# Altium integrated library Linear Technology Operational Amplifiers (LT1000).IntLib: 2280 symbols (part 37 of 79)
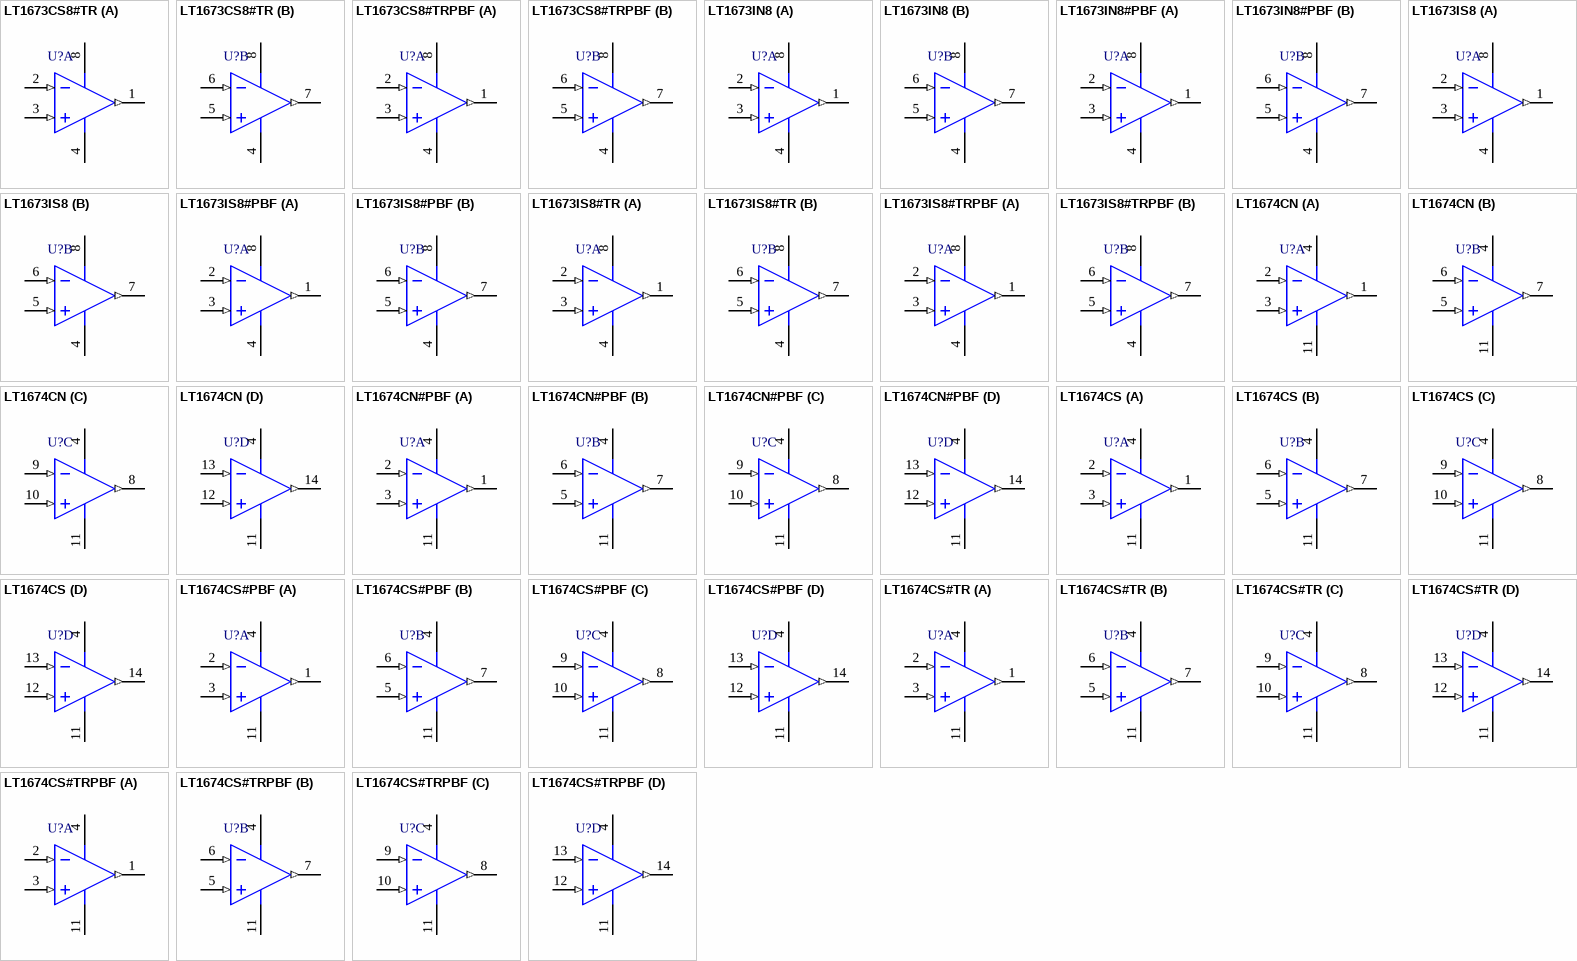
[diagram p141: symbols LT1673CS8#TR to LT1674CS#TRPBF]

## LT1673CS8#TRPBF
designator U?
Dual Channel, Ultra Low Power, Over-The-Top, Rail-to-Rail, Operational Amplifier, 0.012 MHz Typical GBW, 0.005 V/us Typical SR, 2.1 to 36 V, 8-Pin SOIC (S8-8), Commercial, Pb-Free, Reel; Linear Technology Part Number: LT1673; Manufacturer: Linear Technology; PartNumber: LT1673CS8#TRPBF; Channels (#): 2; GBW (MHz) Typical: 0.012; Is (mA) Typical: 0.0015; SR (V/us) Typical: 0.005; Vos (mV) Guaranteed: 0.375; Vos (mV) Typical: 0.15; Vs Max (V): 36; Vs Min (V): 2.1; PackageVersion: Rev G; PackageReference: LT-S8-8; PackageDescription: 8-Pin Plastic Small Outline, Body 4.9 x 3.9 mm, Pitch 1.27 mm; Supplier 1: Digi-Key; Supplier Part Number 1: LT1673CS8#TRPBF-ND; Packing: Reel; RoHS: Pb-Free; Type: VFB; Mounting Technology: Surface Mount; ComponentLink1Description: Manufacturer URL; ComponentLink1URL: http://www.linear.com/; ComponentLink2Description: Datasheet; ComponentLink2URL: http://cds.linear.com/docs/en/datasheet/167234f.pdf; ComponentLink3Description: Package Specification; ComponentLink3URL: http://cds.linear.com/docs/en/packaging/05081610_G_SO8.pdf
footprint LT-S8-8_N (SOIC, 8-Leads, Body 4.9x3.9mm, Pitch 1.27mm, IPC Medium Density)
footprint LT-S8-8_L (SOIC, 8-Leads, Body 4.9x3.9mm, Pitch 1.27mm, IPC High Density)
footprint LT-S8-8_M (SOIC, 8-Leads, Body 4.9x3.9mm, Pitch 1.27mm, IPC Low Density)
pins on every part: 4 V- (power), 8 V+ (power)
part A pins: 1 OUT A (out), 2 -IN A (in), 3 +IN A (in)
part B pins: 5 +IN B (in), 6 -IN B (in), 7 OUT B (out)

## LT1673IN8
designator U?
Dual Channel, Ultra Low Power, Over-The-Top, Rail-to-Rail, Operational Amplifier, 0.012 MHz Typical GBW, 0.005 V/us Typical SR, 2.1 to 36 V, 8-Pin DIP (N8-8), Industrial; Linear Technology Part Number: LT1673; Manufacturer: Linear Technology; PartNumber: LT1673IN8; Channels (#): 2; GBW (MHz) Typical: 0.012; Is (mA) Typical: 0.0015; SR (V/us) Typical: 0.005; Vos (mV) Guaranteed: 0.375; Vos (mV) Typical: 0.15; Vs Max (V): 36; Vs Min (V): 2.1; PackageVersion: Rev I; PackageReference: LT-N8-8; PackageDescription: 8-Lead PDIP, Body 10.16 x 6.48 mm, Pitch 2.54 mm; Type: VFB; Mounting Technology: Through Hole; ComponentLink1Description: Manufacturer URL; ComponentLink1URL: http://www.linear.com/; ComponentLink2Description: Datasheet; ComponentLink2URL: http://cds.linear.com/docs/en/datasheet/167234f.pdf; ComponentLink3Description: Package Specification; ComponentLink3URL: http://cds.linear.com/docs/en/packaging/05081510_I_N8.pdf
footprint LT-N8-8 (DIP, 8-Leads, Body 10.16x6.48mm, Pitch 2.54mm)
pins on every part: 4 V- (power), 8 V+ (power)
part A pins: 1 OUT A (out), 2 -IN A (in), 3 +IN A (in)
part B pins: 5 +IN B (in), 6 -IN B (in), 7 OUT B (out)

## LT1673IN8#PBF
designator U?
Dual Channel, Ultra Low Power, Over-The-Top, Rail-to-Rail, Operational Amplifier, 0.012 MHz Typical GBW, 0.005 V/us Typical SR, 2.1 to 36 V, 8-Pin DIP (N8-8), Industrial, Pb-Free; Linear Technology Part Number: LT1673; Manufacturer: Linear Technology; PartNumber: LT1673IN8#PBF; Channels (#): 2; GBW (MHz) Typical: 0.012; Is (mA) Typical: 0.0015; SR (V/us) Typical: 0.005; Vos (mV) Guaranteed: 0.375; Vos (mV) Typical: 0.15; Vs Max (V): 36; Vs Min (V): 2.1; PackageVersion: Rev I; PackageReference: LT-N8-8; PackageDescription: 8-Lead PDIP, Body 10.16 x 6.48 mm, Pitch 2.54 mm; Supplier 1: Digi-Key; Supplier Part Number 1: LT1673IN8#PBF-ND; RoHS: Pb-Free; Type: VFB; Mounting Technology: Surface Mount; ComponentLink1Description: Manufacturer URL; ComponentLink1URL: http://www.linear.com/; ComponentLink2Description: Datasheet; ComponentLink2URL: http://cds.linear.com/docs/en/datasheet/167234f.pdf; ComponentLink3Description: Package Specification; ComponentLink3URL: http://cds.linear.com/docs/en/packaging/05081510_I_N8.pdf
footprint LT-N8-8 (DIP, 8-Leads, Body 10.16x6.48mm, Pitch 2.54mm)
pins on every part: 4 V- (power), 8 V+ (power)
part A pins: 1 OUT A (out), 2 -IN A (in), 3 +IN A (in)
part B pins: 5 +IN B (in), 6 -IN B (in), 7 OUT B (out)

## LT1673IS8
designator U?
Dual Channel, Ultra Low Power, Over-The-Top, Rail-to-Rail, Operational Amplifier, 0.012 MHz Typical GBW, 0.005 V/us Typical SR, 2.1 to 36 V, 8-Pin SOIC (S8-8), Industrial; Linear Technology Part Number: LT1673; Manufacturer: Linear Technology; PartNumber: LT1673IS8; Channels (#): 2; GBW (MHz) Typical: 0.012; Is (mA) Typical: 0.0015; SR (V/us) Typical: 0.005; Vos (mV) Guaranteed: 0.375; Vos (mV) Typical: 0.15; Vs Max (V): 36; Vs Min (V): 2.1; PackageVersion: Rev G; PackageReference: LT-S8-8; PackageDescription: 8-Pin Plastic Small Outline, Body 4.9 x 3.9 mm, Pitch 1.27 mm; Supplier 1: Digi-Key; Supplier Part Number 1: LT1673IS8-ND; Type: VFB; Mounting Technology: Surface Mount; ComponentLink1Description: Manufacturer URL; ComponentLink1URL: http://www.linear.com/; ComponentLink2Description: Datasheet; ComponentLink2URL: http://cds.linear.com/docs/en/datasheet/167234f.pdf; ComponentLink3Description: Package Specification; ComponentLink3URL: http://cds.linear.com/docs/en/packaging/05081610_G_SO8.pdf
footprint LT-S8-8_N (SOIC, 8-Leads, Body 4.9x3.9mm, Pitch 1.27mm, IPC Medium Density)
footprint LT-S8-8_L (SOIC, 8-Leads, Body 4.9x3.9mm, Pitch 1.27mm, IPC High Density)
footprint LT-S8-8_M (SOIC, 8-Leads, Body 4.9x3.9mm, Pitch 1.27mm, IPC Low Density)
pins on every part: 4 V- (power), 8 V+ (power)
part A pins: 1 OUT A (out), 2 -IN A (in), 3 +IN A (in)
part B pins: 5 +IN B (in), 6 -IN B (in), 7 OUT B (out)

## LT1673IS8#PBF
designator U?
Dual Channel, Ultra Low Power, Over-The-Top, Rail-to-Rail, Operational Amplifier, 0.012 MHz Typical GBW, 0.005 V/us Typical SR, 2.1 to 36 V, 8-Pin SOIC (S8-8), Industrial, Pb-Free; Linear Technology Part Number: LT1673; Manufacturer: Linear Technology; PartNumber: LT1673IS8#PBF; Channels (#): 2; GBW (MHz) Typical: 0.012; Is (mA) Typical: 0.0015; SR (V/us) Typical: 0.005; Vos (mV) Guaranteed: 0.375; Vos (mV) Typical: 0.15; Vs Max (V): 36; Vs Min (V): 2.1; PackageVersion: Rev G; PackageReference: LT-S8-8; PackageDescription: 8-Pin Plastic Small Outline, Body 4.9 x 3.9 mm, Pitch 1.27 mm; Supplier 1: Digi-Key; Supplier Part Number 1: LT1673IS8#PBF-ND; Supplier 2: Newark; Supplier Part Number 2: 57M5643; RoHS: Pb-Free; Type: VFB; Mounting Technology: Surface Mount; ComponentLink1Description: Manufacturer URL; ComponentLink1URL: http://www.linear.com/; ComponentLink2Description: Datasheet; ComponentLink2URL: http://cds.linear.com/docs/en/datasheet/167234f.pdf; ComponentLink3Description: Package Specification; ComponentLink3URL: http://cds.linear.com/docs/en/packaging/05081610_G_SO8.pdf
footprint LT-S8-8_N (SOIC, 8-Leads, Body 4.9x3.9mm, Pitch 1.27mm, IPC Medium Density)
footprint LT-S8-8_L (SOIC, 8-Leads, Body 4.9x3.9mm, Pitch 1.27mm, IPC High Density)
footprint LT-S8-8_M (SOIC, 8-Leads, Body 4.9x3.9mm, Pitch 1.27mm, IPC Low Density)
pins on every part: 4 V- (power), 8 V+ (power)
part A pins: 1 OUT A (out), 2 -IN A (in), 3 +IN A (in)
part B pins: 5 +IN B (in), 6 -IN B (in), 7 OUT B (out)

## LT1673IS8#TR
designator U?
Dual Channel, Ultra Low Power, Over-The-Top, Rail-to-Rail, Operational Amplifier, 0.012 MHz Typical GBW, 0.005 V/us Typical SR, 2.1 to 36 V, 8-Pin SOIC (S8-8), Industrial, Reel; Linear Technology Part Number: LT1673; Manufacturer: Linear Technology; PartNumber: LT1673IS8#TR; Channels (#): 2; GBW (MHz) Typical: 0.012; Is (mA) Typical: 0.0015; SR (V/us) Typical: 0.005; Vos (mV) Guaranteed: 0.375; Vos (mV) Typical: 0.15; Vs Max (V): 36; Vs Min (V): 2.1; PackageVersion: Rev G; PackageReference: LT-S8-8; PackageDescription: 8-Pin Plastic Small Outline, Body 4.9 x 3.9 mm, Pitch 1.27 mm; Supplier 1: Digi-Key; Supplier Part Number 1: LT1673IS8TR-ND; Packing: Reel; Type: VFB; Mounting Technology: Surface Mount; ComponentLink1Description: Manufacturer URL; ComponentLink1URL: http://www.linear.com/; ComponentLink2Description: Datasheet; ComponentLink2URL: http://cds.linear.com/docs/en/datasheet/167234f.pdf; ComponentLink3Description: Package Specification; ComponentLink3URL: http://cds.linear.com/docs/en/packaging/05081610_G_SO8.pdf
footprint LT-S8-8_N (SOIC, 8-Leads, Body 4.9x3.9mm, Pitch 1.27mm, IPC Medium Density)
footprint LT-S8-8_L (SOIC, 8-Leads, Body 4.9x3.9mm, Pitch 1.27mm, IPC High Density)
footprint LT-S8-8_M (SOIC, 8-Leads, Body 4.9x3.9mm, Pitch 1.27mm, IPC Low Density)
pins on every part: 4 V- (power), 8 V+ (power)
part A pins: 1 OUT A (out), 2 -IN A (in), 3 +IN A (in)
part B pins: 5 +IN B (in), 6 -IN B (in), 7 OUT B (out)

## LT1673IS8#TRPBF
designator U?
Dual Channel, Ultra Low Power, Over-The-Top, Rail-to-Rail, Operational Amplifier, 0.012 MHz Typical GBW, 0.005 V/us Typical SR, 2.1 to 36 V, 8-Pin SOIC (S8-8), Industrial, Pb-Free, Reel; Linear Technology Part Number: LT1673; Manufacturer: Linear Technology; PartNumber: LT1673IS8#TRPBF; Channels (#): 2; GBW (MHz) Typical: 0.012; Is (mA) Typical: 0.0015; SR (V/us) Typical: 0.005; Vos (mV) Guaranteed: 0.375; Vos (mV) Typical: 0.15; Vs Max (V): 36; Vs Min (V): 2.1; PackageVersion: Rev G; PackageReference: LT-S8-8; PackageDescription: 8-Pin Plastic Small Outline, Body 4.9 x 3.9 mm, Pitch 1.27 mm; Supplier 1: Digi-Key; Supplier Part Number 1: LT1673IS8#TRPBF-ND; Packing: Reel; RoHS: Pb-Free; Type: VFB; Mounting Technology: Surface Mount; ComponentLink1Description: Manufacturer URL; ComponentLink1URL: http://www.linear.com/; ComponentLink2Description: Datasheet; ComponentLink2URL: http://cds.linear.com/docs/en/datasheet/167234f.pdf; ComponentLink3Description: Package Specification; ComponentLink3URL: http://cds.linear.com/docs/en/packaging/05081610_G_SO8.pdf
footprint LT-S8-8_N (SOIC, 8-Leads, Body 4.9x3.9mm, Pitch 1.27mm, IPC Medium Density)
footprint LT-S8-8_L (SOIC, 8-Leads, Body 4.9x3.9mm, Pitch 1.27mm, IPC High Density)
footprint LT-S8-8_M (SOIC, 8-Leads, Body 4.9x3.9mm, Pitch 1.27mm, IPC Low Density)
pins on every part: 4 V- (power), 8 V+ (power)
part A pins: 1 OUT A (out), 2 -IN A (in), 3 +IN A (in)
part B pins: 5 +IN B (in), 6 -IN B (in), 7 OUT B (out)

## LT1674CN
designator U?
Quad Channel, Ultra Low Power, Over-The-Top, Rail-to-Rail, Operational Amplifier, 0.012 MHz Typical GBW, 0.005 V/us Typical SR, 2.1 to 36 V, 14-Pin DIP (N-14), Commercial; Linear Technology Part Number: LT1674; Manufacturer: Linear Technology; PartNumber: LT1674CN; Channels (#): 4; GBW (MHz) Typical: 0.012; Is (mA) Typical: 0.0015; SR (V/us) Typical: 0.005; Vos (mV) Guaranteed: 0.375; Vos (mV) Typical: 0.15; Vs Max (V): 36; Vs Min (V): 2.1; PackageVersion: Rev I; PackageReference: LT-N-14; PackageDescription: 14-Lead PDIP, Body 19.558 x 6.477 mm, Pitch 2.54 mm; Supplier 1: Digi-Key; Supplier Part Number 1: LT1674CN-ND; Type: VFB; Mounting Technology: Through Hole; ComponentLink1Description: Manufacturer URL; ComponentLink1URL: http://www.linear.com/; ComponentLink2Description: Datasheet; ComponentLink2URL: http://cds.linear.com/docs/en/datasheet/167234f.pdf; ComponentLink3Description: Package Specification; ComponentLink3URL: http://cds.linear.com/docs/en/packaging/05081510_I_N14.pdf
footprint LT-N-14 (DIP, 14-Leads, Body 19.558x6.477mm, Pitch 2.54mm)
pins on every part: 4 V+ (power), 11 V- (power)
part A pins: 1 OUT A (out), 2 -IN A (in), 3 +IN A (in)
part B pins: 5 +IN B (in), 6 -IN B (in), 7 OUT B (out)
part C pins: 8 OUT C (out), 9 -IN C (in), 10 +IN C (in)
part D pins: 12 +IN D (in), 13 -IN D (in), 14 OUT D (out)

## LT1674CN#PBF
designator U?
Quad Channel, Ultra Low Power, Over-The-Top, Rail-to-Rail, Operational Amplifier, 0.012 MHz Typical GBW, 0.005 V/us Typical SR, 2.1 to 36 V, 14-Pin DIP (N-14), Commercial, Pb-Free; Linear Technology Part Number: LT1674; Manufacturer: Linear Technology; PartNumber: LT1674CN#PBF; Channels (#): 4; GBW (MHz) Typical: 0.012; Is (mA) Typical: 0.0015; SR (V/us) Typical: 0.005; Vos (mV) Guaranteed: 0.375; Vos (mV) Typical: 0.15; Vs Max (V): 36; Vs Min (V): 2.1; PackageVersion: Rev I; PackageReference: LT-N-14; PackageDescription: 14-Lead PDIP, Body 19.558 x 6.477 mm, Pitch 2.54 mm; Supplier 1: Digi-Key; Supplier Part Number 1: LT1674CN#PBF-ND; RoHS: Pb-Free; Type: VFB; Mounting Technology: Surface Mount; ComponentLink1Description: Manufacturer URL; ComponentLink1URL: http://www.linear.com/; ComponentLink2Description: Datasheet; ComponentLink2URL: http://cds.linear.com/docs/en/datasheet/167234f.pdf; ComponentLink3Description: Package Specification; ComponentLink3URL: http://cds.linear.com/docs/en/packaging/05081510_I_N14.pdf
footprint LT-N-14 (DIP, 14-Leads, Body 19.558x6.477mm, Pitch 2.54mm)
pins on every part: 4 V+ (power), 11 V- (power)
part A pins: 1 OUT A (out), 2 -IN A (in), 3 +IN A (in)
part B pins: 5 +IN B (in), 6 -IN B (in), 7 OUT B (out)
part C pins: 8 OUT C (out), 9 -IN C (in), 10 +IN C (in)
part D pins: 12 +IN D (in), 13 -IN D (in), 14 OUT D (out)

## LT1674CS
designator U?
Quad Channel, Ultra Low Power, Over-The-Top, Rail-to-Rail, Operational Amplifier, 0.012 MHz Typical GBW, 0.005 V/us Typical SR, 2.1 to 36 V, 14-Pin SOIC (S-14), Commercial; Linear Technology Part Number: LT1674; Manufacturer: Linear Technology; PartNumber: LT1674CS; Channels (#): 4; GBW (MHz) Typical: 0.012; Is (mA) Typical: 0.0015; SR (V/us) Typical: 0.005; Vos (mV) Guaranteed: 0.375; Vos (mV) Typical: 0.15; Vs Max (V): 36; Vs Min (V): 2.1; PackageVersion: Rev G; PackageReference: LT-S-14; PackageDescription: 14-Lead Plastic Small Outline, Body 8.65 x 3.90 mm, Pitch 1.27 mm; Type: VFB; Mounting Technology: Surface Mount; ComponentLink1Description: Manufacturer URL; ComponentLink1URL: http://www.linear.com/; ComponentLink2Description: Datasheet; ComponentLink2URL: http://cds.linear.com/docs/en/datasheet/167234f.pdf; ComponentLink3Description: Package Specification; ComponentLink3URL: http://cds.linear.com/docs/en/packaging/05081610_G_S14.pdf
footprint LT-S-14_N (SOIC, 14-Leads, Body 8.65x3.90mm, Pitch 1.27mm, IPC Medium Density)
footprint LT-S-14_L (SOIC, 14-Leads, Body 8.65x3.90mm, Pitch 1.27mm, IPC High Density)
footprint LT-S-14_M (SOIC, 14-Leads, Body 8.65x3.90mm, Pitch 1.27mm, IPC Low Density)
pins on every part: 4 V+ (power), 11 V- (power)
part A pins: 1 OUT A (out), 2 -IN A (in), 3 +IN A (in)
part B pins: 5 +IN B (in), 6 -IN B (in), 7 OUT B (out)
part C pins: 8 OUT C (out), 9 -IN C (in), 10 +IN C (in)
part D pins: 12 +IN D (in), 13 -IN D (in), 14 OUT D (out)

## LT1674CS#PBF
designator U?
Quad Channel, Ultra Low Power, Over-The-Top, Rail-to-Rail, Operational Amplifier, 0.012 MHz Typical GBW, 0.005 V/us Typical SR, 2.1 to 36 V, 14-Pin SOIC (S-14), Commercial, Pb-Free; Linear Technology Part Number: LT1674; Manufacturer: Linear Technology; PartNumber: LT1674CS#PBF; Channels (#): 4; GBW (MHz) Typical: 0.012; Is (mA) Typical: 0.0015; SR (V/us) Typical: 0.005; Vos (mV) Guaranteed: 0.375; Vos (mV) Typical: 0.15; Vs Max (V): 36; Vs Min (V): 2.1; PackageVersion: Rev G; PackageReference: LT-S-14; PackageDescription: 14-Lead Plastic Small Outline, Body 8.65 x 3.90 mm, Pitch 1.27 mm; Supplier 1: Digi-Key; Supplier Part Number 1: LT1674CS#PBF-ND; Supplier 2: Newark; Supplier Part Number 2: 57M5649; RoHS: Pb-Free; Type: VFB; Mounting Technology: Surface Mount; ComponentLink1Description: Manufacturer URL; ComponentLink1URL: http://www.linear.com/; ComponentLink2Description: Datasheet; ComponentLink2URL: http://cds.linear.com/docs/en/datasheet/167234f.pdf; ComponentLink3Description: Package Specification; ComponentLink3URL: http://cds.linear.com/docs/en/packaging/05081610_G_S14.pdf
footprint LT-S-14_N (SOIC, 14-Leads, Body 8.65x3.90mm, Pitch 1.27mm, IPC Medium Density)
footprint LT-S-14_L (SOIC, 14-Leads, Body 8.65x3.90mm, Pitch 1.27mm, IPC High Density)
footprint LT-S-14_M (SOIC, 14-Leads, Body 8.65x3.90mm, Pitch 1.27mm, IPC Low Density)
pins on every part: 4 V+ (power), 11 V- (power)
part A pins: 1 OUT A (out), 2 -IN A (in), 3 +IN A (in)
part B pins: 5 +IN B (in), 6 -IN B (in), 7 OUT B (out)
part C pins: 8 OUT C (out), 9 -IN C (in), 10 +IN C (in)
part D pins: 12 +IN D (in), 13 -IN D (in), 14 OUT D (out)

## LT1674CS#TR
designator U?
Quad Channel, Ultra Low Power, Over-The-Top, Rail-to-Rail, Operational Amplifier, 0.012 MHz Typical GBW, 0.005 V/us Typical SR, 2.1 to 36 V, 14-Pin SOIC (S-14), Commercial, Reel; Linear Technology Part Number: LT1674; Manufacturer: Linear Technology; PartNumber: LT1674CS#TR; Channels (#): 4; GBW (MHz) Typical: 0.012; Is (mA) Typical: 0.0015; SR (V/us) Typical: 0.005; Vos (mV) Guaranteed: 0.375; Vos (mV) Typical: 0.15; Vs Max (V): 36; Vs Min (V): 2.1; PackageVersion: Rev G; PackageReference: LT-S-14; PackageDescription: 14-Lead Plastic Small Outline, Body 8.65 x 3.90 mm, Pitch 1.27 mm; Supplier 1: Digi-Key; Supplier Part Number 1: LT1674CSTR-ND; Packing: Reel; Type: VFB; Mounting Technology: Surface Mount; ComponentLink1Description: Manufacturer URL; ComponentLink1URL: http://www.linear.com/; ComponentLink2Description: Datasheet; ComponentLink2URL: http://cds.linear.com/docs/en/datasheet/167234f.pdf; ComponentLink3Description: Package Specification; ComponentLink3URL: http://cds.linear.com/docs/en/packaging/05081610_G_S14.pdf
footprint LT-S-14_N (SOIC, 14-Leads, Body 8.65x3.90mm, Pitch 1.27mm, IPC Medium Density)
footprint LT-S-14_L (SOIC, 14-Leads, Body 8.65x3.90mm, Pitch 1.27mm, IPC High Density)
footprint LT-S-14_M (SOIC, 14-Leads, Body 8.65x3.90mm, Pitch 1.27mm, IPC Low Density)
pins on every part: 4 V+ (power), 11 V- (power)
part A pins: 1 OUT A (out), 2 -IN A (in), 3 +IN A (in)
part B pins: 5 +IN B (in), 6 -IN B (in), 7 OUT B (out)
part C pins: 8 OUT C (out), 9 -IN C (in), 10 +IN C (in)
part D pins: 12 +IN D (in), 13 -IN D (in), 14 OUT D (out)

## LT1674CS#TRPBF
designator U?
Quad Channel, Ultra Low Power, Over-The-Top, Rail-to-Rail, Operational Amplifier, 0.012 MHz Typical GBW, 0.005 V/us Typical SR, 2.1 to 36 V, 14-Pin SOIC (S-14), Commercial, Pb-Free, Reel; Linear Technology Part Number: LT1674; Manufacturer: Linear Technology; PartNumber: LT1674CS#TRPBF; Channels (#): 4; GBW (MHz) Typical: 0.012; Is (mA) Typical: 0.0015; SR (V/us) Typical: 0.005; Vos (mV) Guaranteed: 0.375; Vos (mV) Typical: 0.15; Vs Max (V): 36; Vs Min (V): 2.1; PackageVersion: Rev G; PackageReference: LT-S-14; PackageDescription: 14-Lead Plastic Small Outline, Body 8.65 x 3.90 mm, Pitch 1.27 mm; Supplier 1: Digi-Key; Supplier Part Number 1: LT1674CS#TRPBF-ND; Packing: Reel; RoHS: Pb-Free; Type: VFB; Mounting Technology: Surface Mount; ComponentLink1Description: Manufacturer URL; ComponentLink1URL: http://www.linear.com/; ComponentLink2Description: Datasheet; ComponentLink2URL: http://cds.linear.com/docs/en/datasheet/167234f.pdf; ComponentLink3Description: Package Specification; ComponentLink3URL: http://cds.linear.com/docs/en/packaging/05081610_G_S14.pdf
footprint LT-S-14_N (SOIC, 14-Leads, Body 8.65x3.90mm, Pitch 1.27mm, IPC Medium Density)
footprint LT-S-14_L (SOIC, 14-Leads, Body 8.65x3.90mm, Pitch 1.27mm, IPC High Density)
footprint LT-S-14_M (SOIC, 14-Leads, Body 8.65x3.90mm, Pitch 1.27mm, IPC Low Density)
pins on every part: 4 V+ (power), 11 V- (power)
part A pins: 1 OUT A (out), 2 -IN A (in), 3 +IN A (in)
part B pins: 5 +IN B (in), 6 -IN B (in), 7 OUT B (out)
part C pins: 8 OUT C (out), 9 -IN C (in), 10 +IN C (in)
part D pins: 12 +IN D (in), 13 -IN D (in), 14 OUT D (out)

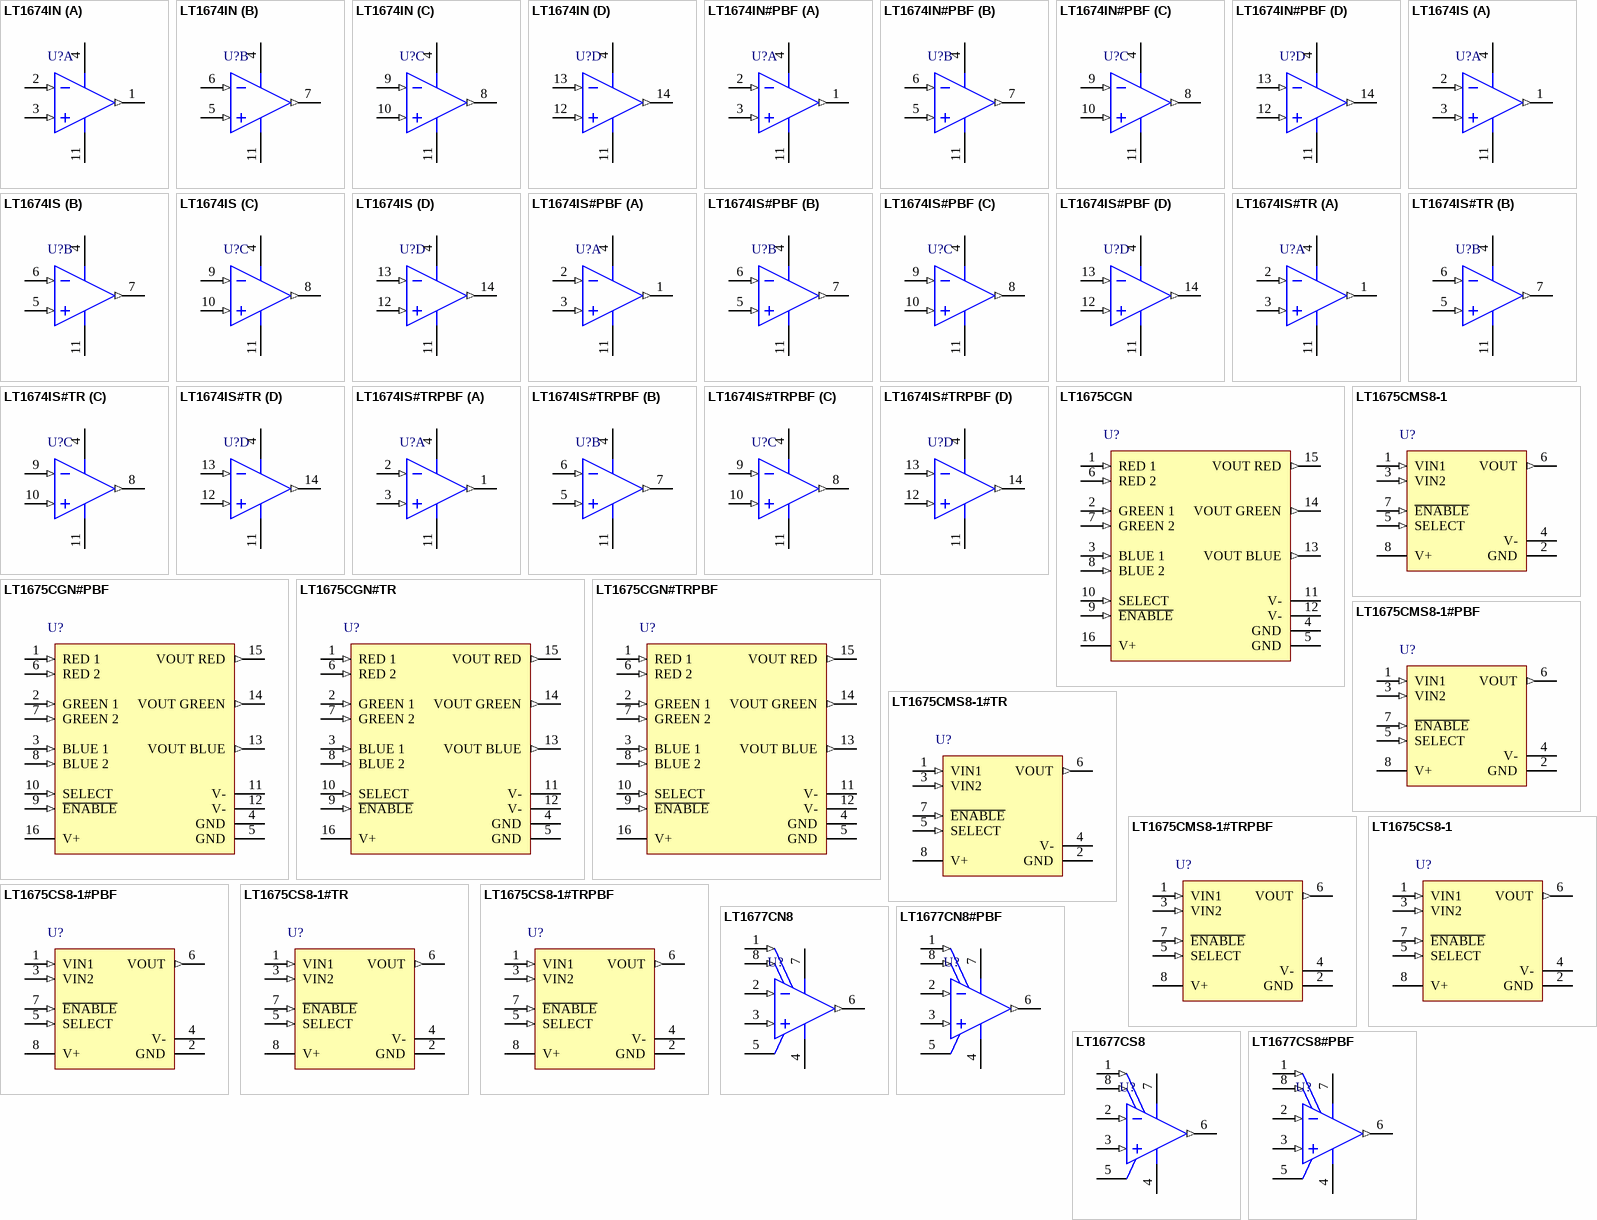
[diagram p64: symbols LT1674IN to LT1677CS8#PBF]

## LT1674IN
designator U?
Quad Channel, Ultra Low Power, Over-The-Top, Rail-to-Rail, Operational Amplifier, 0.012 MHz Typical GBW, 0.005 V/us Typical SR, 2.1 to 36 V, 14-Pin DIP (N-14), Industrial; Linear Technology Part Number: LT1674; Manufacturer: Linear Technology; PartNumber: LT1674IN; Channels (#): 4; GBW (MHz) Typical: 0.012; Is (mA) Typical: 0.0015; SR (V/us) Typical: 0.005; Vos (mV) Guaranteed: 0.375; Vos (mV) Typical: 0.15; Vs Max (V): 36; Vs Min (V): 2.1; PackageVersion: Rev I; PackageReference: LT-N-14; PackageDescription: 14-Lead PDIP, Body 19.558 x 6.477 mm, Pitch 2.54 mm; Type: VFB; Mounting Technology: Through Hole; ComponentLink1Description: Manufacturer URL; ComponentLink1URL: http://www.linear.com/; ComponentLink2Description: Datasheet; ComponentLink2URL: http://cds.linear.com/docs/en/datasheet/167234f.pdf; ComponentLink3Description: Package Specification; ComponentLink3URL: http://cds.linear.com/docs/en/packaging/05081510_I_N14.pdf
footprint LT-N-14 (DIP, 14-Leads, Body 19.558x6.477mm, Pitch 2.54mm)
pins on every part: 4 V+ (power), 11 V- (power)
part A pins: 1 OUT A (out), 2 -IN A (in), 3 +IN A (in)
part B pins: 5 +IN B (in), 6 -IN B (in), 7 OUT B (out)
part C pins: 8 OUT C (out), 9 -IN C (in), 10 +IN C (in)
part D pins: 12 +IN D (in), 13 -IN D (in), 14 OUT D (out)

## LT1674IN#PBF
designator U?
Quad Channel, Ultra Low Power, Over-The-Top, Rail-to-Rail, Operational Amplifier, 0.012 MHz Typical GBW, 0.005 V/us Typical SR, 2.1 to 36 V, 14-Pin DIP (N-14), Industrial, Pb-Free; Linear Technology Part Number: LT1674; Manufacturer: Linear Technology; PartNumber: LT1674IN#PBF; Channels (#): 4; GBW (MHz) Typical: 0.012; Is (mA) Typical: 0.0015; SR (V/us) Typical: 0.005; Vos (mV) Guaranteed: 0.375; Vos (mV) Typical: 0.15; Vs Max (V): 36; Vs Min (V): 2.1; PackageVersion: Rev I; PackageReference: LT-N-14; PackageDescription: 14-Lead PDIP, Body 19.558 x 6.477 mm, Pitch 2.54 mm; Supplier 1: Digi-Key; Supplier Part Number 1: LT1674IN#PBF-ND; RoHS: Pb-Free; Type: VFB; Mounting Technology: Surface Mount; ComponentLink1Description: Manufacturer URL; ComponentLink1URL: http://www.linear.com/; ComponentLink2Description: Datasheet; ComponentLink2URL: http://cds.linear.com/docs/en/datasheet/167234f.pdf; ComponentLink3Description: Package Specification; ComponentLink3URL: http://cds.linear.com/docs/en/packaging/05081510_I_N14.pdf
footprint LT-N-14 (DIP, 14-Leads, Body 19.558x6.477mm, Pitch 2.54mm)
pins on every part: 4 V+ (power), 11 V- (power)
part A pins: 1 OUT A (out), 2 -IN A (in), 3 +IN A (in)
part B pins: 5 +IN B (in), 6 -IN B (in), 7 OUT B (out)
part C pins: 8 OUT C (out), 9 -IN C (in), 10 +IN C (in)
part D pins: 12 +IN D (in), 13 -IN D (in), 14 OUT D (out)

## LT1674IS
designator U?
Quad Channel, Ultra Low Power, Over-The-Top, Rail-to-Rail, Operational Amplifier, 0.012 MHz Typical GBW, 0.005 V/us Typical SR, 2.1 to 36 V, 14-Pin SOIC (S-14), Industrial; Linear Technology Part Number: LT1674; Manufacturer: Linear Technology; PartNumber: LT1674IS; Channels (#): 4; GBW (MHz) Typical: 0.012; Is (mA) Typical: 0.0015; SR (V/us) Typical: 0.005; Vos (mV) Guaranteed: 0.375; Vos (mV) Typical: 0.15; Vs Max (V): 36; Vs Min (V): 2.1; PackageVersion: Rev G; PackageReference: LT-S-14; PackageDescription: 14-Lead Plastic Small Outline, Body 8.65 x 3.90 mm, Pitch 1.27 mm; Type: VFB; Mounting Technology: Surface Mount; ComponentLink1Description: Manufacturer URL; ComponentLink1URL: http://www.linear.com/; ComponentLink2Description: Datasheet; ComponentLink2URL: http://cds.linear.com/docs/en/datasheet/167234f.pdf; ComponentLink3Description: Package Specification; ComponentLink3URL: http://cds.linear.com/docs/en/packaging/05081610_G_S14.pdf
footprint LT-S-14_N (SOIC, 14-Leads, Body 8.65x3.90mm, Pitch 1.27mm, IPC Medium Density)
footprint LT-S-14_L (SOIC, 14-Leads, Body 8.65x3.90mm, Pitch 1.27mm, IPC High Density)
footprint LT-S-14_M (SOIC, 14-Leads, Body 8.65x3.90mm, Pitch 1.27mm, IPC Low Density)
pins on every part: 4 V+ (power), 11 V- (power)
part A pins: 1 OUT A (out), 2 -IN A (in), 3 +IN A (in)
part B pins: 5 +IN B (in), 6 -IN B (in), 7 OUT B (out)
part C pins: 8 OUT C (out), 9 -IN C (in), 10 +IN C (in)
part D pins: 12 +IN D (in), 13 -IN D (in), 14 OUT D (out)

## LT1674IS#PBF
designator U?
Quad Channel, Ultra Low Power, Over-The-Top, Rail-to-Rail, Operational Amplifier, 0.012 MHz Typical GBW, 0.005 V/us Typical SR, 2.1 to 36 V, 14-Pin SOIC (S-14), Industrial, Pb-Free; Linear Technology Part Number: LT1674; Manufacturer: Linear Technology; PartNumber: LT1674IS#PBF; Channels (#): 4; GBW (MHz) Typical: 0.012; Is (mA) Typical: 0.0015; SR (V/us) Typical: 0.005; Vos (mV) Guaranteed: 0.375; Vos (mV) Typical: 0.15; Vs Max (V): 36; Vs Min (V): 2.1; PackageVersion: Rev G; PackageReference: LT-S-14; PackageDescription: 14-Lead Plastic Small Outline, Body 8.65 x 3.90 mm, Pitch 1.27 mm; Supplier 1: Digi-Key; Supplier Part Number 1: LT1674IS#PBF-ND; RoHS: Pb-Free; Type: VFB; Mounting Technology: Surface Mount; ComponentLink1Description: Manufacturer URL; ComponentLink1URL: http://www.linear.com/; ComponentLink2Description: Datasheet; ComponentLink2URL: http://cds.linear.com/docs/en/datasheet/167234f.pdf; ComponentLink3Description: Package Specification; ComponentLink3URL: http://cds.linear.com/docs/en/packaging/05081610_G_S14.pdf
footprint LT-S-14_N (SOIC, 14-Leads, Body 8.65x3.90mm, Pitch 1.27mm, IPC Medium Density)
footprint LT-S-14_L (SOIC, 14-Leads, Body 8.65x3.90mm, Pitch 1.27mm, IPC High Density)
footprint LT-S-14_M (SOIC, 14-Leads, Body 8.65x3.90mm, Pitch 1.27mm, IPC Low Density)
pins on every part: 4 V+ (power), 11 V- (power)
part A pins: 1 OUT A (out), 2 -IN A (in), 3 +IN A (in)
part B pins: 5 +IN B (in), 6 -IN B (in), 7 OUT B (out)
part C pins: 8 OUT C (out), 9 -IN C (in), 10 +IN C (in)
part D pins: 12 +IN D (in), 13 -IN D (in), 14 OUT D (out)

## LT1674IS#TR
designator U?
Quad Channel, Ultra Low Power, Over-The-Top, Rail-to-Rail, Operational Amplifier, 0.012 MHz Typical GBW, 0.005 V/us Typical SR, 2.1 to 36 V, 14-Pin SOIC (S-14), Industrial, Reel; Linear Technology Part Number: LT1674; Manufacturer: Linear Technology; PartNumber: LT1674IS#TR; Channels (#): 4; GBW (MHz) Typical: 0.012; Is (mA) Typical: 0.0015; SR (V/us) Typical: 0.005; Vos (mV) Guaranteed: 0.375; Vos (mV) Typical: 0.15; Vs Max (V): 36; Vs Min (V): 2.1; PackageVersion: Rev G; PackageReference: LT-S-14; PackageDescription: 14-Lead Plastic Small Outline, Body 8.65 x 3.90 mm, Pitch 1.27 mm; Supplier 1: Digi-Key; Supplier Part Number 1: LT1674ISTR-ND; Packing: Reel; Type: VFB; Mounting Technology: Surface Mount; ComponentLink1Description: Manufacturer URL; ComponentLink1URL: http://www.linear.com/; ComponentLink2Description: Datasheet; ComponentLink2URL: http://cds.linear.com/docs/en/datasheet/167234f.pdf; ComponentLink3Description: Package Specification; ComponentLink3URL: http://cds.linear.com/docs/en/packaging/05081610_G_S14.pdf
footprint LT-S-14_N (SOIC, 14-Leads, Body 8.65x3.90mm, Pitch 1.27mm, IPC Medium Density)
footprint LT-S-14_L (SOIC, 14-Leads, Body 8.65x3.90mm, Pitch 1.27mm, IPC High Density)
footprint LT-S-14_M (SOIC, 14-Leads, Body 8.65x3.90mm, Pitch 1.27mm, IPC Low Density)
pins on every part: 4 V+ (power), 11 V- (power)
part A pins: 1 OUT A (out), 2 -IN A (in), 3 +IN A (in)
part B pins: 5 +IN B (in), 6 -IN B (in), 7 OUT B (out)
part C pins: 8 OUT C (out), 9 -IN C (in), 10 +IN C (in)
part D pins: 12 +IN D (in), 13 -IN D (in), 14 OUT D (out)

## LT1674IS#TRPBF
designator U?
Quad Channel, Ultra Low Power, Over-The-Top, Rail-to-Rail, Operational Amplifier, 0.012 MHz Typical GBW, 0.005 V/us Typical SR, 2.1 to 36 V, 14-Pin SOIC (S-14), Industrial, Pb-Free, Reel; Linear Technology Part Number: LT1674; Manufacturer: Linear Technology; PartNumber: LT1674IS#TRPBF; Channels (#): 4; GBW (MHz) Typical: 0.012; Is (mA) Typical: 0.0015; SR (V/us) Typical: 0.005; Vos (mV) Guaranteed: 0.375; Vos (mV) Typical: 0.15; Vs Max (V): 36; Vs Min (V): 2.1; PackageVersion: Rev G; PackageReference: LT-S-14; PackageDescription: 14-Lead Plastic Small Outline, Body 8.65 x 3.90 mm, Pitch 1.27 mm; Supplier 1: Digi-Key; Supplier Part Number 1: LT1674IS#TRPBF-ND; Packing: Reel; RoHS: Pb-Free; Type: VFB; Mounting Technology: Surface Mount; ComponentLink1Description: Manufacturer URL; ComponentLink1URL: http://www.linear.com/; ComponentLink2Description: Datasheet; ComponentLink2URL: http://cds.linear.com/docs/en/datasheet/167234f.pdf; ComponentLink3Description: Package Specification; ComponentLink3URL: http://cds.linear.com/docs/en/packaging/05081610_G_S14.pdf
footprint LT-S-14_N (SOIC, 14-Leads, Body 8.65x3.90mm, Pitch 1.27mm, IPC Medium Density)
footprint LT-S-14_L (SOIC, 14-Leads, Body 8.65x3.90mm, Pitch 1.27mm, IPC High Density)
footprint LT-S-14_M (SOIC, 14-Leads, Body 8.65x3.90mm, Pitch 1.27mm, IPC Low Density)
pins on every part: 4 V+ (power), 11 V- (power)
part A pins: 1 OUT A (out), 2 -IN A (in), 3 +IN A (in)
part B pins: 5 +IN B (in), 6 -IN B (in), 7 OUT B (out)
part C pins: 8 OUT C (out), 9 -IN C (in), 10 +IN C (in)
part D pins: 12 +IN D (in), 13 -IN D (in), 14 OUT D (out)

## LT1675CGN
designator U?
3 Channel, RGB Multiplexer with Amplifier, 250 MHz Typical GBW, 1100 V/us Typical SR, 5.2 to 12.6 V, 16-Pin SOP (GN-16), Commercial; Linear Technology Part Number: LT1675; Manufacturer: Linear Technology; PartNumber: LT1675CGN; Channels (#): 3; GBW (MHz) Typical: 250; Is (mA) Typical: 11; SR (V/us) Typical: 1100; Vos (mV) Guaranteed: 40; Vos (mV) Typical: 20; Vs Max (V): 12.6; Vs Min (V): 5.2; DatasheetVersion: Rev. B; PackageVersion: Rev B; PackageReference: LT-GN-16; PackageDescription: 16-Lead Plastic SSOP, Body 4.9 x 3.9 mm, Pitch 0.635 mm; Supplier 1: Digi-Key; Supplier Part Number 1: LT1675CGN-ND; Supplier 2: Newark; Supplier Part Number 2: 57M5658; Type: VIDEO; Mounting Technology: Surface Mount; ComponentLink1Description: Manufacturer URL; ComponentLink1URL: http://www.linear.com/; ComponentLink2Description: Datasheet; ComponentLink2URL: http://cds.linear.com/docs/en/datasheet/1675fb.pdf; ComponentLink3Description: Package Specification; ComponentLink3URL: http://cds.linear.com/docs/en/packaging/05081641_B_GN16.pdf
footprint LT-GN-16_N (SOP, 16-Leads, Body 4.9x3.9mm, Pitch 0.635mm, IPC Medium Density)
footprint LT-GN-16_L (SOP, 16-Leads, Body 4.9x3.9mm, Pitch 0.635mm, IPC High Density)
footprint LT-GN-16_M (SOP, 16-Leads, Body 4.9x3.9mm, Pitch 0.635mm, IPC Low Density)
pins: 1 RED 1 (in) "Red 1 Input. The 1V video input signal to be switched is applied to this pin. If 2V is applied to this pin, VOUT RED will clip. The input must be terminated.", 2 GREEN 1 (in) "Green 1 Input. The 1V video input signal to be switched is applied to this pin. If 2V is applied to this pin, VOUT GREEN will clip. The input must be terminated.", 3 BLUE 1 (in) "Blue 1 Input. The 1V video input signal to be switched is applied to this pin. If 2V is applied to this pin, VOUT BLUE will clip. The input must be terminated.", 4 GND (power) "Signal Ground. Connect to ground plane.", 5 GND (power) "Signal Ground. Connect to ground plane.", 6 RED 2 (in) "Red 2 Input. The 1V video input signal to be switched is applied to this pin. If 2V is applied to this pin, VOUT RED will clip. The input must be terminated.", 7 GREEN 2 (in) "Green 2 Input. The 1V video input signal to be switched is applied to this pin. If 2V is applied to this pin, VOUT GREEN will clip. The input must be terminated.", 8 BLUE 2 (in) "Blue 2 Input. The 1V video input signal to be switched is applied to this pin. If 2V is applied to this pin, VOUT BLUE will clip. The input must be terminated.", 9 ~{ENABLE} (in) "Chip Enable. Ground this pin for normal operation. Take this pin to within 300mV of V+, or open to shut down the part. This pin is also used for router applications. When the part is disabled, the supply current is 1uA.", 10 SELECT (in) "Channel Select. Use this pin to select between RGB1 inputs and RGB2 inputs. Use this pin for fast toggling. HIGH Selects RGB1.", 11 V- (power) "Negative Power Supply. Connect these pins to - 5V and bypass with a good tantalum capacitor (4.7uF). The pin may also require a 0.1uF or 0.01uF depending on layout.", 12 V- (power) "Negative Power Supply. Connect these pins to - 5V and bypass with a good tantalum capacitor (4.7uF). The pin may also require a 0.1uF or 0.01uF depending on layout.", 13 VOUT BLUE (out) "Blue Output. It is twice BLUE 1 or BLUE 2 depending on which channel is selected by Pin 10. VOUT BLUE drives 50ohm or 75ohm double-terminated cables. Do not add capacitance to this pin.", 14 VOUT GREEN (out) "Green Output. It is twice GREEN 1 or GREEN 2 depending on which channel is selected by Pin 10. VOUT GREEN drives 50ohm or 75ohm double-terminated cables. Do not add capacitance to this pin.", 15 VOUT RED (out) "Red Output. It is twice RED 1 or RED 2 depending on which channel is selected by Pin 10. VOUT RED drives 50ohm or 75ohm double-terminated cables. Do not add capacitance to this pin.", 16 V+ (power) "Positive Power Supply. Connect this pin to 5V and bypass with a good tantalum capacitor (4.7uF). The pin may also require a 0.1uF or 0.01uF depending on layout."

## LT1675CGN#PBF
designator U?
3 Channel, RGB Multiplexer with Amplifier, 250 MHz Typical GBW, 1100 V/us Typical SR, 5.2 to 12.6 V, 16-Pin SOP (GN-16), Commercial, Pb-Free; Linear Technology Part Number: LT1675; Manufacturer: Linear Technology; PartNumber: LT1675CGN#PBF; Channels (#): 3; GBW (MHz) Typical: 250; Is (mA) Typical: 11; SR (V/us) Typical: 1100; Vos (mV) Guaranteed: 40; Vos (mV) Typical: 20; Vs Max (V): 12.6; Vs Min (V): 5.2; DatasheetVersion: Rev. B; PackageVersion: Rev B; PackageReference: LT-GN-16; PackageDescription: 16-Lead Plastic SSOP, Body 4.9 x 3.9 mm, Pitch 0.635 mm; Supplier 1: Digi-Key; Supplier Part Number 1: LT1675CGN#PBF-ND; Supplier 2: Farnell; Supplier Part Number 2: 2308589; Supplier 3: Newark; Supplier Part Number 3: 57M5659; RoHS: Pb-Free; Type: VIDEO; Mounting Technology: Surface Mount; ComponentLink1Description: Manufacturer URL; ComponentLink1URL: http://www.linear.com/; ComponentLink2Description: Datasheet; ComponentLink2URL: http://cds.linear.com/docs/en/datasheet/1675fb.pdf; ComponentLink3Description: Package Specification; ComponentLink3URL: http://cds.linear.com/docs/en/packaging/05081641_B_GN16.pdf
footprint LT-GN-16_N (SOP, 16-Leads, Body 4.9x3.9mm, Pitch 0.635mm, IPC Medium Density)
footprint LT-GN-16_L (SOP, 16-Leads, Body 4.9x3.9mm, Pitch 0.635mm, IPC High Density)
footprint LT-GN-16_M (SOP, 16-Leads, Body 4.9x3.9mm, Pitch 0.635mm, IPC Low Density)
pins: 1 RED 1 (in) "Red 1 Input. The 1V video input signal to be switched is applied to this pin. If 2V is applied to this pin, VOUT RED will clip. The input must be terminated.", 2 GREEN 1 (in) "Green 1 Input. The 1V video input signal to be switched is applied to this pin. If 2V is applied to this pin, VOUT GREEN will clip. The input must be terminated.", 3 BLUE 1 (in) "Blue 1 Input. The 1V video input signal to be switched is applied to this pin. If 2V is applied to this pin, VOUT BLUE will clip. The input must be terminated.", 4 GND (power) "Signal Ground. Connect to ground plane.", 5 GND (power) "Signal Ground. Connect to ground plane.", 6 RED 2 (in) "Red 2 Input. The 1V video input signal to be switched is applied to this pin. If 2V is applied to this pin, VOUT RED will clip. The input must be terminated.", 7 GREEN 2 (in) "Green 2 Input. The 1V video input signal to be switched is applied to this pin. If 2V is applied to this pin, VOUT GREEN will clip. The input must be terminated.", 8 BLUE 2 (in) "Blue 2 Input. The 1V video input signal to be switched is applied to this pin. If 2V is applied to this pin, VOUT BLUE will clip. The input must be terminated.", 9 ~{ENABLE} (in) "Chip Enable. Ground this pin for normal operation. Take this pin to within 300mV of V+, or open to shut down the part. This pin is also used for router applications. When the part is disabled, the supply current is 1uA.", 10 SELECT (in) "Channel Select. Use this pin to select between RGB1 inputs and RGB2 inputs. Use this pin for fast toggling. HIGH Selects RGB1.", 11 V- (power) "Negative Power Supply. Connect these pins to - 5V and bypass with a good tantalum capacitor (4.7uF). The pin may also require a 0.1uF or 0.01uF depending on layout.", 12 V- (power) "Negative Power Supply. Connect these pins to - 5V and bypass with a good tantalum capacitor (4.7uF). The pin may also require a 0.1uF or 0.01uF depending on layout.", 13 VOUT BLUE (out) "Blue Output. It is twice BLUE 1 or BLUE 2 depending on which channel is selected by Pin 10. VOUT BLUE drives 50ohm or 75ohm double-terminated cables. Do not add capacitance to this pin.", 14 VOUT GREEN (out) "Green Output. It is twice GREEN 1 or GREEN 2 depending on which channel is selected by Pin 10. VOUT GREEN drives 50ohm or 75ohm double-terminated cables. Do not add capacitance to this pin.", 15 VOUT RED (out) "Red Output. It is twice RED 1 or RED 2 depending on which channel is selected by Pin 10. VOUT RED drives 50ohm or 75ohm double-terminated cables. Do not add capacitance to this pin.", 16 V+ (power) "Positive Power Supply. Connect this pin to 5V and bypass with a good tantalum capacitor (4.7uF). The pin may also require a 0.1uF or 0.01uF depending on layout."

## LT1675CGN#TR
designator U?
3 Channel, RGB Multiplexer with Amplifier, 250 MHz Typical GBW, 1100 V/us Typical SR, 5.2 to 12.6 V, 16-Pin SOP (GN-16), Commercial, Reel; Linear Technology Part Number: LT1675; Manufacturer: Linear Technology; PartNumber: LT1675CGN#TR; Channels (#): 3; GBW (MHz) Typical: 250; Is (mA) Typical: 11; SR (V/us) Typical: 1100; Vos (mV) Guaranteed: 40; Vos (mV) Typical: 20; Vs Max (V): 12.6; Vs Min (V): 5.2; DatasheetVersion: Rev. B; PackageVersion: Rev B; PackageReference: LT-GN-16; PackageDescription: 16-Lead Plastic SSOP, Body 4.9 x 3.9 mm, Pitch 0.635 mm; Supplier 1: Digi-Key; Supplier Part Number 1: LT1675CGN#TR-ND; Supplier 2: Newark; Supplier Part Number 2: 57M5660; Packing: Reel; Type: VIDEO; Mounting Technology: Surface Mount; ComponentLink1Description: Manufacturer URL; ComponentLink1URL: http://www.linear.com/; ComponentLink2Description: Datasheet; ComponentLink2URL: http://cds.linear.com/docs/en/datasheet/1675fb.pdf; ComponentLink3Description: Package Specification; ComponentLink3URL: http://cds.linear.com/docs/en/packaging/05081641_B_GN16.pdf
footprint LT-GN-16_N (SOP, 16-Leads, Body 4.9x3.9mm, Pitch 0.635mm, IPC Medium Density)
footprint LT-GN-16_L (SOP, 16-Leads, Body 4.9x3.9mm, Pitch 0.635mm, IPC High Density)
footprint LT-GN-16_M (SOP, 16-Leads, Body 4.9x3.9mm, Pitch 0.635mm, IPC Low Density)
pins: 1 RED 1 (in) "Red 1 Input. The 1V video input signal to be switched is applied to this pin. If 2V is applied to this pin, VOUT RED will clip. The input must be terminated.", 2 GREEN 1 (in) "Green 1 Input. The 1V video input signal to be switched is applied to this pin. If 2V is applied to this pin, VOUT GREEN will clip. The input must be terminated.", 3 BLUE 1 (in) "Blue 1 Input. The 1V video input signal to be switched is applied to this pin. If 2V is applied to this pin, VOUT BLUE will clip. The input must be terminated.", 4 GND (power) "Signal Ground. Connect to ground plane.", 5 GND (power) "Signal Ground. Connect to ground plane.", 6 RED 2 (in) "Red 2 Input. The 1V video input signal to be switched is applied to this pin. If 2V is applied to this pin, VOUT RED will clip. The input must be terminated.", 7 GREEN 2 (in) "Green 2 Input. The 1V video input signal to be switched is applied to this pin. If 2V is applied to this pin, VOUT GREEN will clip. The input must be terminated.", 8 BLUE 2 (in) "Blue 2 Input. The 1V video input signal to be switched is applied to this pin. If 2V is applied to this pin, VOUT BLUE will clip. The input must be terminated.", 9 ~{ENABLE} (in) "Chip Enable. Ground this pin for normal operation. Take this pin to within 300mV of V+, or open to shut down the part. This pin is also used for router applications. When the part is disabled, the supply current is 1uA.", 10 SELECT (in) "Channel Select. Use this pin to select between RGB1 inputs and RGB2 inputs. Use this pin for fast toggling. HIGH Selects RGB1.", 11 V- (power) "Negative Power Supply. Connect these pins to - 5V and bypass with a good tantalum capacitor (4.7uF). The pin may also require a 0.1uF or 0.01uF depending on layout.", 12 V- (power) "Negative Power Supply. Connect these pins to - 5V and bypass with a good tantalum capacitor (4.7uF). The pin may also require a 0.1uF or 0.01uF depending on layout.", 13 VOUT BLUE (out) "Blue Output. It is twice BLUE 1 or BLUE 2 depending on which channel is selected by Pin 10. VOUT BLUE drives 50ohm or 75ohm double-terminated cables. Do not add capacitance to this pin.", 14 VOUT GREEN (out) "Green Output. It is twice GREEN 1 or GREEN 2 depending on which channel is selected by Pin 10. VOUT GREEN drives 50ohm or 75ohm double-terminated cables. Do not add capacitance to this pin.", 15 VOUT RED (out) "Red Output. It is twice RED 1 or RED 2 depending on which channel is selected by Pin 10. VOUT RED drives 50ohm or 75ohm double-terminated cables. Do not add capacitance to this pin.", 16 V+ (power) "Positive Power Supply. Connect this pin to 5V and bypass with a good tantalum capacitor (4.7uF). The pin may also require a 0.1uF or 0.01uF depending on layout."

## LT1675CGN#TRPBF
designator U?
3 Channel, RGB Multiplexer with Amplifier, 250 MHz Typical GBW, 1100 V/us Typical SR, 5.2 to 12.6 V, 16-Pin SOP (GN-16), Commercial, Pb-Free, Reel; Linear Technology Part Number: LT1675; Manufacturer: Linear Technology; PartNumber: LT1675CGN#TRPBF; Channels (#): 3; GBW (MHz) Typical: 250; Is (mA) Typical: 11; SR (V/us) Typical: 1100; Vos (mV) Guaranteed: 40; Vos (mV) Typical: 20; Vs Max (V): 12.6; Vs Min (V): 5.2; DatasheetVersion: Rev. B; PackageVersion: Rev B; PackageReference: LT-GN-16; PackageDescription: 16-Lead Plastic SSOP, Body 4.9 x 3.9 mm, Pitch 0.635 mm; Supplier 1: Digi-Key; Supplier Part Number 1: LT1675CGN#TRPBF-ND; Packing: Reel; RoHS: Pb-Free; Type: VIDEO; Mounting Technology: Surface Mount; ComponentLink1Description: Manufacturer URL; ComponentLink1URL: http://www.linear.com/; ComponentLink2Description: Datasheet; ComponentLink2URL: http://cds.linear.com/docs/en/datasheet/1675fb.pdf; ComponentLink3Description: Package Specification; ComponentLink3URL: http://cds.linear.com/docs/en/packaging/05081641_B_GN16.pdf
footprint LT-GN-16_N (SOP, 16-Leads, Body 4.9x3.9mm, Pitch 0.635mm, IPC Medium Density)
footprint LT-GN-16_L (SOP, 16-Leads, Body 4.9x3.9mm, Pitch 0.635mm, IPC High Density)
footprint LT-GN-16_M (SOP, 16-Leads, Body 4.9x3.9mm, Pitch 0.635mm, IPC Low Density)
pins: 1 RED 1 (in) "Red 1 Input. The 1V video input signal to be switched is applied to this pin. If 2V is applied to this pin, VOUT RED will clip. The input must be terminated.", 2 GREEN 1 (in) "Green 1 Input. The 1V video input signal to be switched is applied to this pin. If 2V is applied to this pin, VOUT GREEN will clip. The input must be terminated.", 3 BLUE 1 (in) "Blue 1 Input. The 1V video input signal to be switched is applied to this pin. If 2V is applied to this pin, VOUT BLUE will clip. The input must be terminated.", 4 GND (power) "Signal Ground. Connect to ground plane.", 5 GND (power) "Signal Ground. Connect to ground plane.", 6 RED 2 (in) "Red 2 Input. The 1V video input signal to be switched is applied to this pin. If 2V is applied to this pin, VOUT RED will clip. The input must be terminated.", 7 GREEN 2 (in) "Green 2 Input. The 1V video input signal to be switched is applied to this pin. If 2V is applied to this pin, VOUT GREEN will clip. The input must be terminated.", 8 BLUE 2 (in) "Blue 2 Input. The 1V video input signal to be switched is applied to this pin. If 2V is applied to this pin, VOUT BLUE will clip. The input must be terminated.", 9 ~{ENABLE} (in) "Chip Enable. Ground this pin for normal operation. Take this pin to within 300mV of V+, or open to shut down the part. This pin is also used for router applications. When the part is disabled, the supply current is 1uA.", 10 SELECT (in) "Channel Select. Use this pin to select between RGB1 inputs and RGB2 inputs. Use this pin for fast toggling. HIGH Selects RGB1.", 11 V- (power) "Negative Power Supply. Connect these pins to - 5V and bypass with a good tantalum capacitor (4.7uF). The pin may also require a 0.1uF or 0.01uF depending on layout.", 12 V- (power) "Negative Power Supply. Connect these pins to - 5V and bypass with a good tantalum capacitor (4.7uF). The pin may also require a 0.1uF or 0.01uF depending on layout.", 13 VOUT BLUE (out) "Blue Output. It is twice BLUE 1 or BLUE 2 depending on which channel is selected by Pin 10. VOUT BLUE drives 50ohm or 75ohm double-terminated cables. Do not add capacitance to this pin.", 14 VOUT GREEN (out) "Green Output. It is twice GREEN 1 or GREEN 2 depending on which channel is selected by Pin 10. VOUT GREEN drives 50ohm or 75ohm double-terminated cables. Do not add capacitance to this pin.", 15 VOUT RED (out) "Red Output. It is twice RED 1 or RED 2 depending on which channel is selected by Pin 10. VOUT RED drives 50ohm or 75ohm double-terminated cables. Do not add capacitance to this pin.", 16 V+ (power) "Positive Power Supply. Connect this pin to 5V and bypass with a good tantalum capacitor (4.7uF). The pin may also require a 0.1uF or 0.01uF depending on layout."

## LT1675CMS8-1
designator U?
Single Channel, RGB Multiplexer with Amplifier, 250 MHz Typical GBW, 1100 V/us Typical SR, 5.2 to 12.6 V, 8-Pin SOP (MS8-8), Commercial; Linear Technology Part Number: LT1675-1; Manufacturer: Linear Technology; PartNumber: LT1675CMS8-1; Channels (#): 1; GBW (MHz) Typical: 250; Is (mA) Typical: 11; SR (V/us) Typical: 1100; Vos (mV) Guaranteed: 40; Vos (mV) Typical: 20; Vs Max (V): 12.6; Vs Min (V): 5.2; DatasheetVersion: Rev. B; PackageVersion: Rev G; PackageReference: LT-MS8-8; PackageDescription: 8-Lead Plastic Small Outline, Body 3.9 x 4.9 mm, Pitch 1.27 mm; Supplier 1: Digi-Key; Supplier Part Number 1: LT1675CMS8-1-ND; Type: VIDEO; Mounting Technology: Surface Mount; ComponentLink1Description: Manufacturer URL; ComponentLink1URL: http://www.linear.com/; ComponentLink2Description: Datasheet; ComponentLink2URL: http://cds.linear.com/docs/en/datasheet/1675fb.pdf; ComponentLink3Description: Package Specification; ComponentLink3URL: http://cds.linear.com/docs/en/packaging/05081610_G_SO8.pdf
footprint LT-MS8-8_N (SOP, 8-Leads, Body 3x3mm, Pitch 0.65mm, IPC Medium Density)
footprint LT-MS8-8_L (SOP, 8-Leads, Body 3x3mm, Pitch 0.65mm, IPC High Density)
footprint LT-MS8-8_M (SOP, 8-Leads, Body 3x3mm, Pitch 0.65mm, IPC Low Density)
pins: 1 VIN1 (in) "The 1V video input signal to be switched is applied to this pin. If 2V is applied to this pin, VOUT will clip. The input must be terminated", 2 GND (power) "Signal Ground. Connect to ground plane.", 3 VIN2 (in) "The 1V video input signal to be switched is applied to this pin. If 2V is applied to this pin, VOUT will clip. The input must be terminated.", 4 V- (power) "Connect this pin to -5V and bypass with good tantalum capacitor (4.7uF). The pin may also require a 0.1uF or 0.01uF depending on layout.", 5 SELECT (in) "Use this pin to select VIN1 or VIN2. Use this pin for fast toggling. HIGH Selects VIN1.", 6 VOUT (out) "It is twice VIN1 or VIN2 depending on which channel is selected by Pin 5. VOUT drives 50ohm or 75ohm double-terminated cables. Do not add capacitance to this pin.", 7 ~{ENABLE} (in) "Ground this pin for normal operation. Take this pin to within 300mV of V+, or open to shut down the part. This pin is also used for router applications. When the part is disabled, the supply current is 0.3uA.", 8 V+ (power) "Connect this pin to 5V and bypass with a good tantalum capacitor (4.7uF). The pin may also require a 0.1uF or 0.01uF depending on layout."

## LT1675CMS8-1#PBF
designator U?
Single Channel, RGB Multiplexer with Amplifier, 250 MHz Typical GBW, 1100 V/us Typical SR, 5.2 to 12.6 V, 8-Pin SOP (MS8-8), Commercial, Pb-Free; Linear Technology Part Number: LT1675-1; Manufacturer: Linear Technology; PartNumber: LT1675CMS8-1#PBF; Channels (#): 1; GBW (MHz) Typical: 250; Is (mA) Typical: 11; SR (V/us) Typical: 1100; Vos (mV) Guaranteed: 40; Vos (mV) Typical: 20; Vs Max (V): 12.6; Vs Min (V): 5.2; DatasheetVersion: Rev. B; PackageVersion: Rev G; PackageReference: LT-MS8-8; PackageDescription: 8-Lead Plastic Small Outline, Body 3.9 x 4.9 mm, Pitch 1.27 mm; Supplier 1: Digi-Key; Supplier Part Number 1: LT1675CMS8-1#PBF-ND; Supplier 2: Newark; Supplier Part Number 2: 57M5663; RoHS: Pb-Free; Type: VIDEO; Mounting Technology: Surface Mount; ComponentLink1Description: Manufacturer URL; ComponentLink1URL: http://www.linear.com/; ComponentLink2Description: Datasheet; ComponentLink2URL: http://cds.linear.com/docs/en/datasheet/1675fb.pdf; ComponentLink3Description: Package Specification; ComponentLink3URL: http://cds.linear.com/docs/en/packaging/05081610_G_SO8.pdf
footprint LT-MS8-8_N (SOP, 8-Leads, Body 3x3mm, Pitch 0.65mm, IPC Medium Density)
footprint LT-MS8-8_L (SOP, 8-Leads, Body 3x3mm, Pitch 0.65mm, IPC High Density)
footprint LT-MS8-8_M (SOP, 8-Leads, Body 3x3mm, Pitch 0.65mm, IPC Low Density)
pins: 1 VIN1 (in) "The 1V video input signal to be switched is applied to this pin. If 2V is applied to this pin, VOUT will clip. The input must be terminated", 2 GND (power) "Signal Ground. Connect to ground plane.", 3 VIN2 (in) "The 1V video input signal to be switched is applied to this pin. If 2V is applied to this pin, VOUT will clip. The input must be terminated.", 4 V- (power) "Connect this pin to -5V and bypass with good tantalum capacitor (4.7uF). The pin may also require a 0.1uF or 0.01uF depending on layout.", 5 SELECT (in) "Use this pin to select VIN1 or VIN2. Use this pin for fast toggling. HIGH Selects VIN1.", 6 VOUT (out) "It is twice VIN1 or VIN2 depending on which channel is selected by Pin 5. VOUT drives 50ohm or 75ohm double-terminated cables. Do not add capacitance to this pin.", 7 ~{ENABLE} (in) "Ground this pin for normal operation. Take this pin to within 300mV of V+, or open to shut down the part. This pin is also used for router applications. When the part is disabled, the supply current is 0.3uA.", 8 V+ (power) "Connect this pin to 5V and bypass with a good tantalum capacitor (4.7uF). The pin may also require a 0.1uF or 0.01uF depending on layout."